# EAGLE library part USB-B (library f-connector-interface)
BERG USB connector
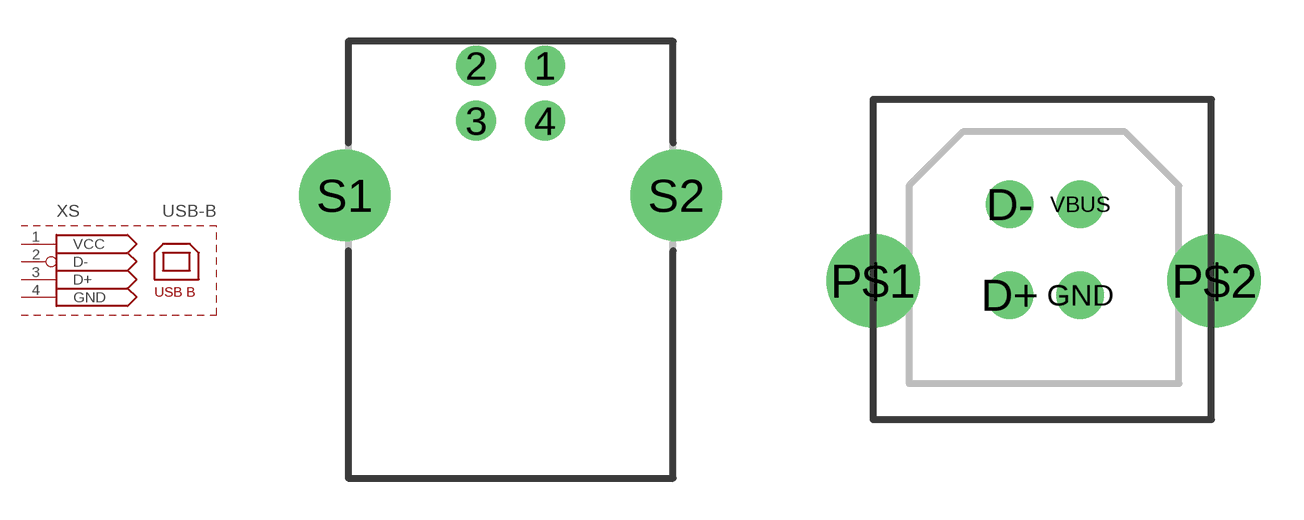
[diagram p0: symbol with the pads of USB-TYPEB; footprints USB-TYPEB, USB-B-PTH-VERTICAL]

Designator prefix XS

## USB-B (OC_FARNELL: unknown; OC_NEWARK: unknown)  [USB-TYPEB]
1  VCC  pas
2  D-
3  D+
4  GND  pas
S1  S1  pas
S2  S2  pas

## USB-B-VERTICAL  [USB-B-PTH-VERTICAL]
D+  D+
D-  D-
GND  GND  pas
P$1  S1  pas
P$2  S2  pas
VBUS  VCC  pas

## USB-B-MINI-TH  [USB-MB-H]
D+  D+
D-  D-
GND  GND  pas
P$6  S1  pas
P$7  S2  pas
VBUS  VCC  pas

## USB-B-MINI  [USB-MINIB]
D+  D+
D-  D-
GND  GND  pas
MTN1  S1  pas
MTN2  S1  pas
MTN3  S2  pas
MTN4  S2  pas
VBUS  VCC  pas

## USB-B-MINI-TH-V  [USB-MB-V]
Pads as for USB-MB-H

## Footprint USB-TYPEB (pad centres in mm)
USB connector with shield
drill 0.95: 1 1.25,4.71; 2 -1.25,4.71; 3 -1.25,2.71; 4 1.25,2.71
drill 2.3 pad 2.9: S1 -6.02,0; S2 6.02,0

## Footprint USB-B-PTH-VERTICAL (pad centres in mm)
USB Series B Hole Mounted
drill 0.914 pad 1.676: D+ 4.826,4.394; D- 4.826,7.595; GND 7.315,4.394; VBUS 7.315,7.595
drill 2.286: P$1 0,4.902; P$2 12.04,4.902

## Footprint USB-MB-H (pad centres in mm)
USB Series Mini-B Hole Mounted
drill 0.8: D+ 5.1,0; D- 3.9,0.8; GND 5.1,-1.6; ID 3.9,-0.8; VBUS 5.1,1.6
drill 1.9: P$6 0,-3.65; P$7 0,3.65

## Footprint USB-MINIB (pad centres in mm)
USB Series Mini-B Surface Mounted
smd 2.5 x 0.5: D+ 2.5,0; D- 2.5,0.8; GND 2.5,-1.6; ID 2.5,-0.8; VBUS 2.5,1.6
smd 2.5 x 2: MTN1 -3,4.5; MTN2 2.5,4.5; MTN3 -3,-4.5; MTN4 2.5,-4.5
hole 0.9 at 0,2.2
hole 0.9 at 0,-2.2

## Footprint USB-MB-V (pad centres in mm)
drill 0.7: D+ 0.9,0; D- -0.9,0.8; GND 0.9,-1.6; ID -0.9,-0.8; VBUS 0.9,1.6
drill 2: P$6 0,4.2; P$7 0,-4.2